# EAGLE library part TYPE-C (library esp32-component-libraries_v104)
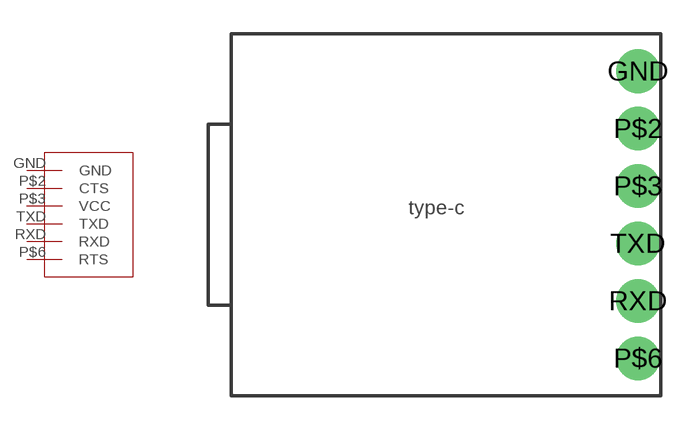
[diagram p0: symbol with the pads of TYPE-C; footprint TYPE-C]

Designator prefix -

## TYPE-C  [TYPE-C]
GND  GND
P$2  CTS
P$3  VCC
P$6  RTS
RXD  RXD
TXD  TXD

## Footprint TYPE-C (pad centres in mm)
drill 1.27 pad 1.93: GND 0,6.35; P$2 0,3.81; P$3 0,1.27; P$6 0,-6.35; RXD 0,-3.81; TXD 0,-1.27